# EAGLE library part EFM32G222F32 (library EnergyMicro)
EFM32G222F32 Gecko Microcontroller in 7mm x 7mm QFP48 package
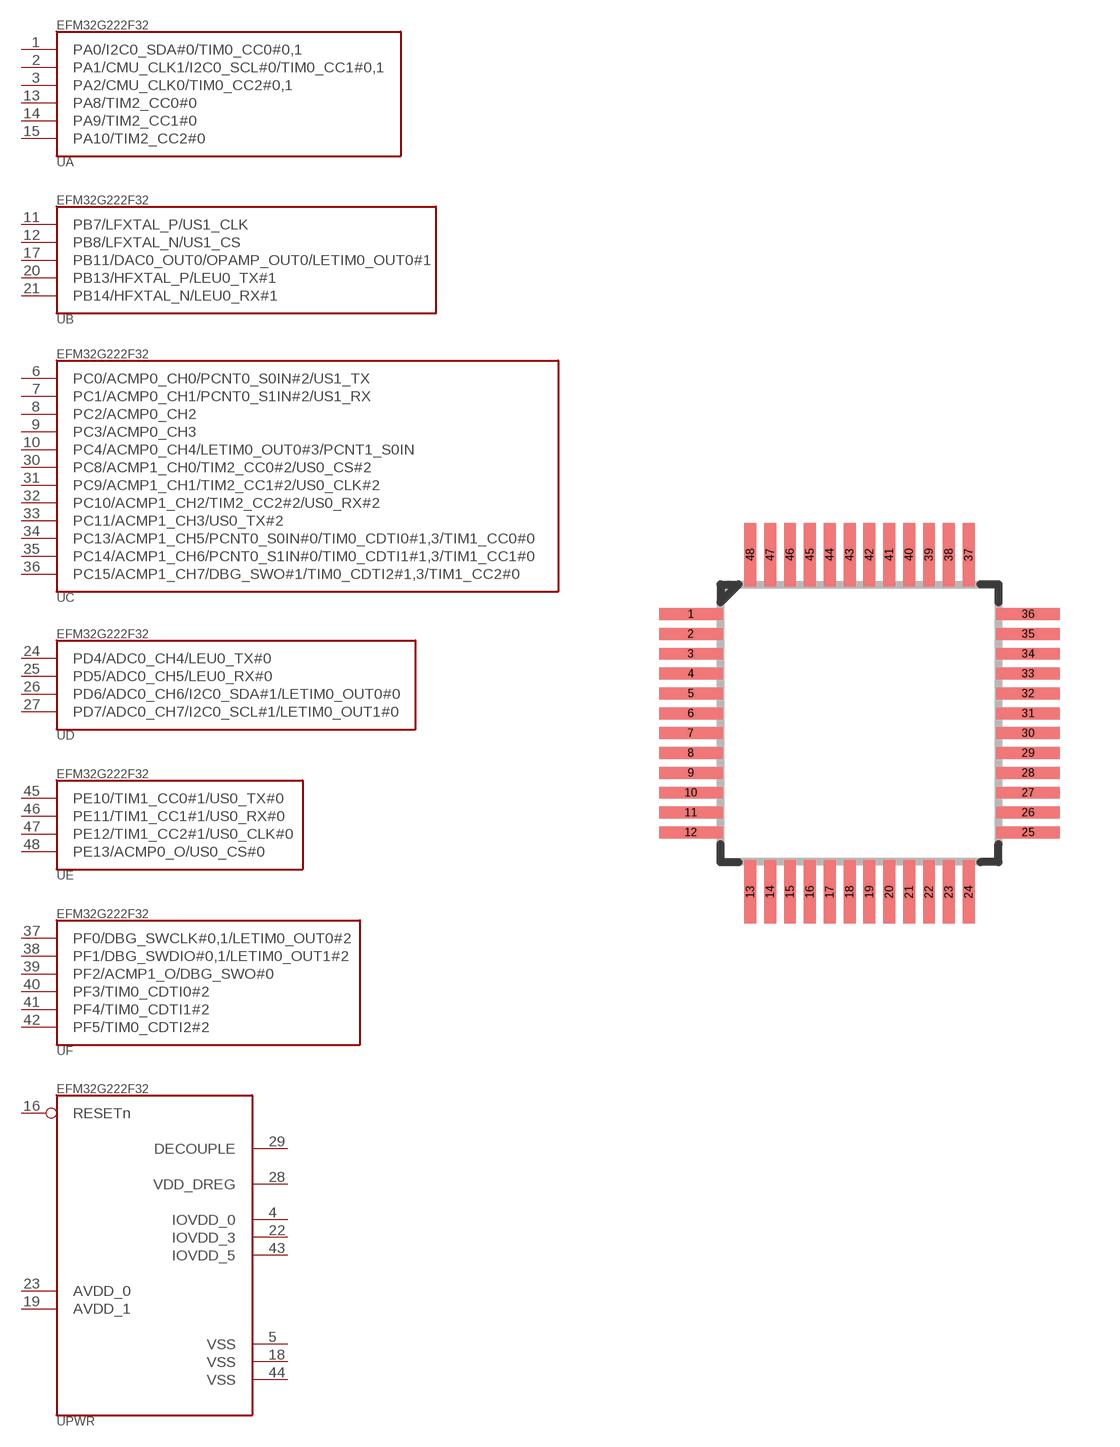
[diagram p5: symbol with the pads of QFP48; footprint QFP48]

Designator prefix -; gates A=EFM32G222F32_A B=EFM32G222F32_B C=EFM32G222F32_C D=EFM32G222F32_D E=EFM32G222F32_E F=EFM32G222F32_F PWR=EFM32G222F32_PWR

## EFM32G222F32  [QFP48]
1  A:PA0/I2C0_SDA#0/TIM0_CC0#0,1
2  A:PA1/CMU_CLK1/I2C0_SCL#0/TIM0_CC1#0,1
3  A:PA2/CMU_CLK0/TIM0_CC2#0,1
4  PWR:IOVDD_0  pwr
5  PWR:VSS  pwr
6  C:PC0/ACMP0_CH0/PCNT0_S0IN#2/US1_TX
7  C:PC1/ACMP0_CH1/PCNT0_S1IN#2/US1_RX
8  C:PC2/ACMP0_CH2
9  C:PC3/ACMP0_CH3
10  C:PC4/ACMP0_CH4/LETIM0_OUT0#3/PCNT1_S0IN
11  B:PB7/LFXTAL_P/US1_CLK
12  B:PB8/LFXTAL_N/US1_CS
13  A:PA8/TIM2_CC0#0
14  A:PA9/TIM2_CC1#0
15  A:PA10/TIM2_CC2#0
16  PWR:RESETn  pas
17  B:PB11/DAC0_OUT0/OPAMP_OUT0/LETIM0_OUT0#1
18  PWR:VSS  pwr
19  PWR:AVDD_1  pwr
20  B:PB13/HFXTAL_P/LEU0_TX#1
21  B:PB14/HFXTAL_N/LEU0_RX#1
22  PWR:IOVDD_3  pwr
23  PWR:AVDD_0  pwr
24  D:PD4/ADC0_CH4/LEU0_TX#0
25  D:PD5/ADC0_CH5/LEU0_RX#0
26  D:PD6/ADC0_CH6/I2C0_SDA#1/LETIM0_OUT0#0
27  D:PD7/ADC0_CH7/I2C0_SCL#1/LETIM0_OUT1#0
28  PWR:VDD_DREG  pwr
29  PWR:DECOUPLE  pwr
30  C:PC8/ACMP1_CH0/TIM2_CC0#2/US0_CS#2
31  C:PC9/ACMP1_CH1/TIM2_CC1#2/US0_CLK#2
32  C:PC10/ACMP1_CH2/TIM2_CC2#2/US0_RX#2
33  C:PC11/ACMP1_CH3/US0_TX#2
34  C:PC13/ACMP1_CH5/PCNT0_S0IN#0/TIM0_CDTI0#1,3/TIM1_CC0#0
35  C:PC14/ACMP1_CH6/PCNT0_S1IN#0/TIM0_CDTI1#1,3/TIM1_CC1#0
36  C:PC15/ACMP1_CH7/DBG_SWO#1/TIM0_CDTI2#1,3/TIM1_CC2#0
37  F:PF0/DBG_SWCLK#0,1/LETIM0_OUT0#2
38  F:PF1/DBG_SWDIO#0,1/LETIM0_OUT1#2
39  F:PF2/ACMP1_O/DBG_SWO#0
40  F:PF3/TIM0_CDTI0#2
41  F:PF4/TIM0_CDTI1#2
42  F:PF5/TIM0_CDTI2#2
43  PWR:IOVDD_5  pwr
44  PWR:VSS  pwr
45  E:PE10/TIM1_CC0#1/US0_TX#0
46  E:PE11/TIM1_CC1#1/US0_RX#0
47  E:PE12/TIM1_CC2#1/US0_CLK#0
48  E:PE13/ACMP0_O/US0_CS#0

## Footprint QFP48 (pad centres in mm)
smd 1.6 x 0.3: 1 -4.25,2.75; 2 -4.25,2.25; 3 -4.25,1.75; 4 -4.25,1.25; 5 -4.25,0.75; 6 -4.25,0.25; 7 -4.25,-0.25; 8 -4.25,-0.75; 9 -4.25,-1.25; 10 -4.25,-1.75; 11 -4.25,-2.25; 12 -4.25,-2.75; 25 4.25,-2.75; 26 4.25,-2.25; 27 4.25,-1.75; 28 4.25,-1.25; 29 4.25,-0.75; 30 4.25,-0.25; 31 4.25,0.25; 32 4.25,0.75; 33 4.25,1.25; 34 4.25,1.75; 35 4.25,2.25; 36 4.25,2.75
smd 0.3 x 1.6: 13 -2.75,-4.25; 14 -2.25,-4.25; 15 -1.75,-4.25; 16 -1.25,-4.25; 17 -0.75,-4.25; 18 -0.25,-4.25; 19 0.25,-4.25; 20 0.75,-4.25; 21 1.25,-4.25; 22 1.75,-4.25; 23 2.25,-4.25; 24 2.75,-4.25; 37 2.75,4.25; 38 2.25,4.25; 39 1.75,4.25; 40 1.25,4.25; 41 0.75,4.25; 42 0.25,4.25; 43 -0.25,4.25; 44 -0.75,4.25; 45 -1.25,4.25; 46 -1.75,4.25; 47 -2.25,4.25; 48 -2.75,4.25